# EAGLE library part XC9572XL-VQ44 (library Xilinx)
Xilinx XC9572XL in a VQ44 package
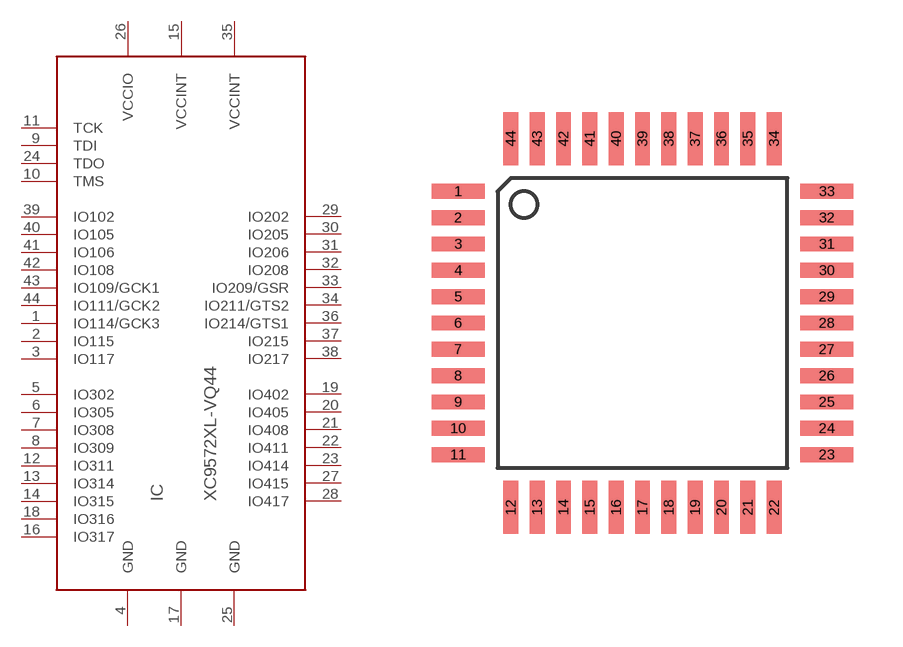
[diagram p26: symbol with the pads of VQ44; footprint VQ44]

Designator prefix IC

## XC9572XL-VQ44VQ44  [VQ44]
1  IO114/GCK3
2  IO115
3  IO117
4  GND  pwr
5  IO302
6  IO305
7  IO308
8  IO309
9  TDI  in
10  TMS  in
11  TCK  in
12  IO311
13  IO314
14  IO315
15  VCCINT  pwr
16  IO317
17  GND  pwr
18  IO316
19  IO402
20  IO405
21  IO408
22  IO411
23  IO414
24  TDO  out
25  GND  pwr
26  VCCIO  pwr
27  IO415
28  IO417
29  IO202
30  IO205
31  IO206
32  IO208
33  IO209/GSR
34  IO211/GTS2
35  VCCINT  pwr
36  IO214/GTS1
37  IO215
38  IO217
39  IO102
40  IO105
41  IO106
42  IO108
43  IO109/GCK1
44  IO111/GCK2

## Footprint VQ44 (pad centres in mm)
VQFP 44
smd 1.6 x 0.45: 1 -5.6,4; 2 -5.6,3.2; 3 -5.6,2.4; 4 -5.6,1.6; 5 -5.6,0.8; 6 -5.6,0; 7 -5.6,-0.8; 8 -5.6,-1.6; 9 -5.6,-2.4; 10 -5.6,-3.2; 11 -5.6,-4; 23 5.6,-4; 24 5.6,-3.2; 25 5.6,-2.4; 26 5.6,-1.6; 27 5.6,-0.8; 28 5.6,0; 29 5.6,0.8; 30 5.6,1.6; 31 5.6,2.4; 32 5.6,3.2; 33 5.6,4
smd 0.45 x 1.6: 12 -4,-5.6; 13 -3.2,-5.6; 14 -2.4,-5.6; 15 -1.6,-5.6; 16 -0.8,-5.6; 17 0,-5.6; 18 0.8,-5.6; 19 1.6,-5.6; 20 2.4,-5.6; 21 3.2,-5.6; 22 4,-5.6; 34 4,5.6; 35 3.2,5.6; 36 2.4,5.6; 37 1.6,5.6; 38 0.8,5.6; 39 0,5.6; 40 -0.8,5.6; 41 -1.6,5.6; 42 -2.4,5.6; 43 -3.2,5.6; 44 -4,5.6